# EAGLE library part MCP4131-103E/SN-ND (library johnmamish-microchip)
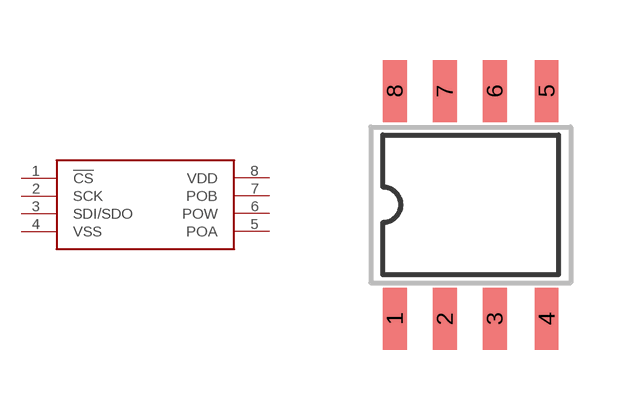
[diagram p0: symbol with the pads of MICROCHIP_SOIC_8; footprint MICROCHIP_SOIC_8]

Designator prefix -

## MCP4131-103E/SN-ND  [MICROCHIP_SOIC_8]
1  !CS!
2  SCK
3  SDI/SDO
4  VSS
5  POA
6  POW
7  POB
8  VDD

## Footprint MICROCHIP_SOIC_8 (pad centres in mm)
smd 0.6 x 1.55: 1 0,-5.7; 2 1.25,-5.7; 3 2.5,-5.7; 4 3.8,-5.7; 5 3.8,0; 6 2.5,0; 7 1.25,0; 8 0,0